# Altium schematic symbol library RLC.SchLib: 7 symbols
Pins are listed as number, name and electrical type; pins without a type are passive.

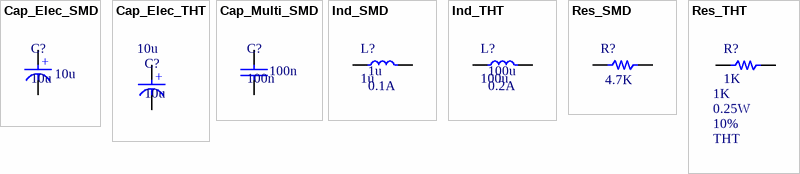
[diagram p0: symbols Cap_Elec_SMD to Res_THT]

## Cap_Elec_SMD
designator C?, comment 10u
Rating: 25V; Type: Electrolyte; Package: 5mm; Value: 10u
footprint Cap_Elec_SMD_5x5.4
pins: N Negative, P Positvie
text: +

## Cap_Elec_THT
designator C?, comment 10u
Rating: 25V; Type: Electrolyte; Package: 5x11; Value: 10u
footprint Cap_Elec_THT
pins: N Negative, P Positvie
text: +

## Cap_Multi_SMD
designator C?, comment 100n
Rating: 50V; Type: MultiLayer; Package: 0805; Value: 100n
footprint Cap_SMD_0805
pins: 1, 2

## Ind_SMD
designator L?, comment 1u  Rating: 0.1A
Type: Resistor; Package: THT; Value: 1u
footprint Ind_SMD_0805
footprint Ind_SMD_Power_D128C
pins: 1, 2

## Ind_THT
designator L?, comment 100u  Rating: 0.2A
Type: Resistor; Package: THT; Value: 100u
footprint IND_THT_1/8
footprint IND_THT_1/4
footprint Ind_Drum_10x12
pins: 1, 2

## Res_SMD
designator R?, comment 4.7K
Rating: 0.125W; Type: 1%; Package: 0805; Value: 4.7K
footprint Res_SMD_0805
pins: 1, 2

## Res_THT
designator R?, comment 1K  Package: THT  Rating: 0.25W  Type: 10%
Value: 1K
footprint Res_THT_1/4
pins: 1, 2